# EAGLE library part ALLEGRO_20A_CS (library AHNS10)
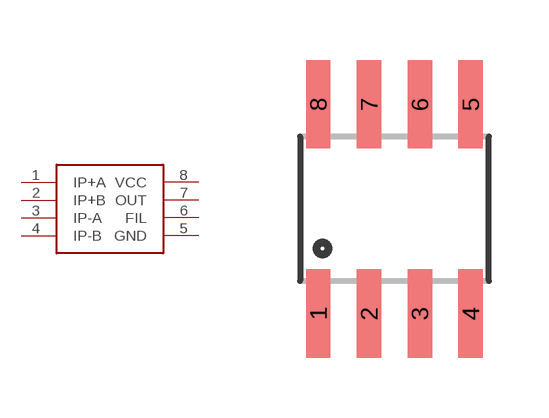
[diagram p3: symbol with the pads of SO08; footprint SO08]

Designator prefix -

## ALLEGRO_20A_CS  [SO08]
1  IP+A
2  IP+B
3  IP-A
4  IP-B
5  GND
6  FIL
7  OUT
8  VCC

## Footprint SO08 (pad centres in mm)
Small Outline Package Fits JEDEC packages (narrow SOIC-8)
smd 0.61 x 2.21: 1 -1.905,-2.616; 2 -0.635,-2.616; 3 0.635,-2.616; 4 1.905,-2.616; 5 1.905,2.616; 6 0.635,2.616; 7 -0.635,2.616; 8 -1.905,2.616